# EAGLE library part CC2530 (library CC2530_PCB_TL - Backup Copy - DO NOT EDIT)
CC2530_QFN40
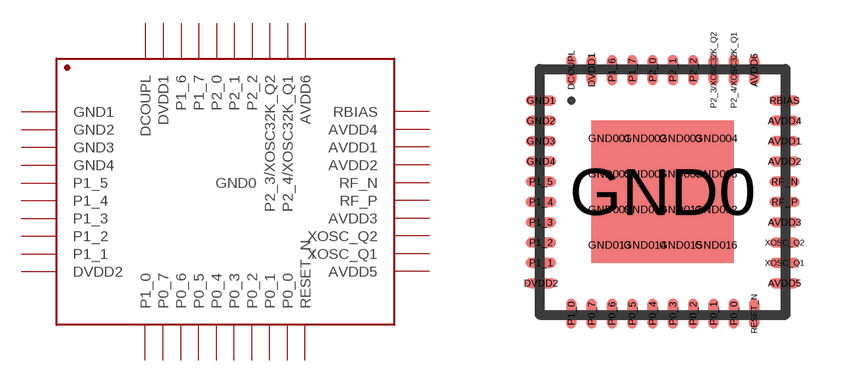
[diagram p0: symbol with the pads of CC2530; footprint CC2530]

Designator prefix -

## CC2530  [CC2530]
AVDD1  AVDD1  pwr
AVDD2  AVDD2  pwr
AVDD3  AVDD3  pwr
AVDD4  AVDD4  pwr
AVDD5  AVDD5  pwr
AVDD6  AVDD6  pwr
DCOUPL  DCOUPL  pwr
DVDD1  DVDD1  pwr
DVDD2  DVDD2  pwr
GND0  GND0  pwr
GND001  GND0  pwr
GND1  GND1  pwr
GND002  GND0  pwr
GND2  GND2  pwr
GND003  GND0  pwr
GND3  GND3  pwr
GND004  GND0  pwr
GND4  GND4  pwr
GND005  GND0  pwr
GND006  GND0  pwr
GND007  GND0  pwr
GND008  GND0  pwr
GND009  GND0  pwr
GND010  GND0  pwr
GND011  GND0  pwr
GND012  GND0  pwr
GND013  GND0  pwr
GND014  GND0  pwr
GND015  GND0  pwr
GND016  GND0  pwr
P0_0  P0_0
P0_1  P0_1
P0_2  P0_2
P0_3  P0_3
P0_4  P0_4
P0_5  P0_5
P0_6  P0_6
P0_7  P0_7
P1_0  P1_0
P1_1  P1_1
P1_2  P1_2
P1_3  P1_3
P1_4  P1_4
P1_5  P1_5
P1_6  P1_6
P1_7  P1_7
P2_0  P2_0
P2_1  P2_1
P2_2  P2_2
P2_3/XOSC32K_Q2  P2_3/XOSC32K_Q2
P2_4/XOSC32K_Q1  P2_4/XOSC32K_Q1
RBIAS  RBIAS
RESET_N  RESET_N  in
RF_N  RF_N
RF_P  RF_P
XOSC_Q1  XOSC_Q1
XOSC_Q2  XOSC_Q2

## Footprint CC2530 (pad centres in mm)
CC2530_QFN40
smd 0.762 x 0.254: AVDD1 3.048,1.27; AVDD2 3.048,0.762; AVDD3 3.048,-0.762; AVDD4 3.048,1.778; AVDD5 3.048,-2.286; DVDD2 -3.048,-2.286; GND1 -3.048,2.286; GND2 -3.048,1.778; GND3 -3.048,1.27; GND4 -3.048,0.762; P1_1 -3.048,-1.778; P1_2 -3.048,-1.27; P1_3 -3.048,-0.762; P1_4 -3.048,-0.254; P1_5 -3.048,0.254; RBIAS 3.048,2.286; RF_N 3.048,0.254; RF_P 3.048,-0.254; XOSC_Q1 3.048,-1.778; XOSC_Q2 3.048,-1.27
smd 0.254 x 0.762: AVDD6 2.286,3.048; DCOUPL -2.286,3.048; DVDD1 -1.778,3.048; P0_0 1.778,-3.048; P0_1 1.27,-3.048; P0_2 0.762,-3.048; P0_3 0.254,-3.048; P0_4 -0.254,-3.048; P0_5 -0.762,-3.048; P0_6 -1.27,-3.048; P0_7 -1.778,-3.048; P1_0 -2.286,-3.048; P1_6 -1.27,3.048; P1_7 -0.762,3.048; P2_0 -0.254,3.048; P2_1 0.254,3.048; P2_2 0.762,3.048; P2_3/XOSC32K_Q2 1.27,3.048; P2_4/XOSC32K_Q1 1.778,3.048; RESET_N 2.286,-3.048
smd 3.56 x 3.56: GND0 0,0
drill 0.381 square: GND001 -1.335,1.335; GND002 -0.445,1.335; GND003 0.445,1.335; GND004 1.335,1.335; GND005 -1.335,0.445; GND006 -0.445,0.445; GND007 0.44,0.445; GND008 1.335,0.445; GND009 -1.335,-0.445; GND010 -0.445,-0.445; GND011 0.445,-0.445; GND012 1.335,-0.445; GND013 -1.335,-1.335; GND014 -0.445,-1.335; GND015 0.445,-1.335; GND016 1.335,-1.335